# Altium integrated library Microchip PIC18.IntLib: 1897 symbols (part 41 of 110)
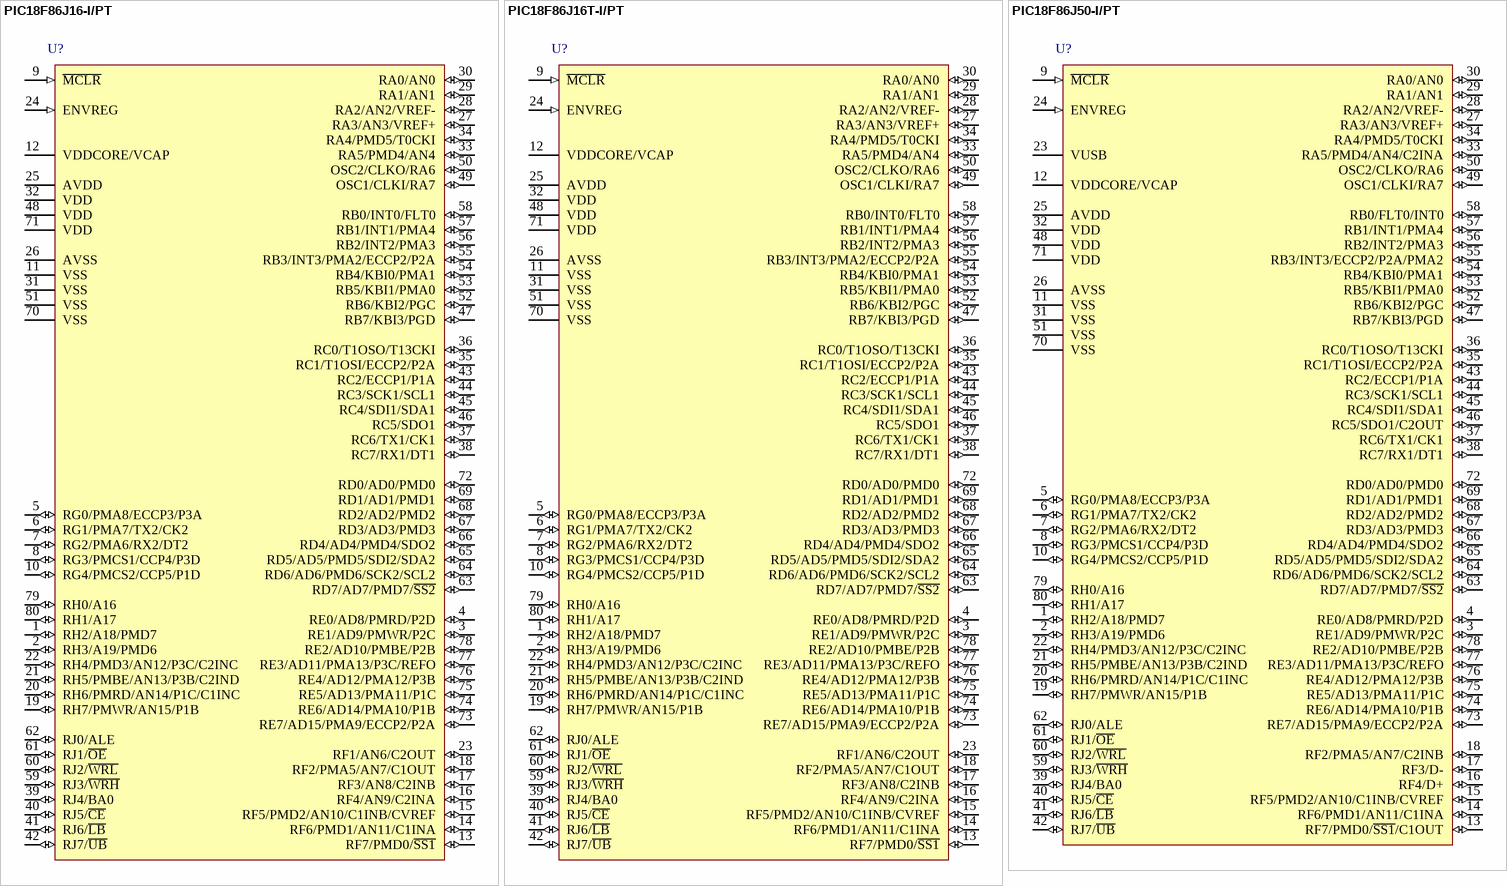
[diagram p243: symbols PIC18F86J16-I/PT to PIC18F86J50-I/PT]

## PIC18F86J50-I/PT
designator U?
High Performance, 1-Mbit Flash USB Microcontroller with nanoWatt Technology, 64K Flash, 80-Pin TQFP, Industrial Temperature Range; Manufacturer: Microchip; PartNumber: PIC18F86J50-I/PT; DatasheetVersion: revC, Oct-2009; PackageVersion: C04-092B, 12/2012; PackageReference: TQFP-PT80; PackageDescription: 80-Lead Plastic Thin Quad FlatPack, 12 x 12 mm Body, 0.5 mm Pitch; ComponentLink1Description: Manufacturer URL; ComponentLink1URL: http://www.microchip.com/; ComponentLink2Description: Datasheet; ComponentLink2URL: http://ww1.microchip.com/downloads/en/DeviceDoc/39775c.pdf; ComponentLink3Description: Package Specification; ComponentLink3URL: http://www.microchip.com/stellent/groups/techpub_sg/documents/packagingspec/en012702.pdf
footprint MCHP-TQFP-PT80_N (QFN, 80-Leads, Body 12x12mm, Pitch 0.5mm, IPC Medium Density)
footprint MCHP-TQFP-PT80_L (QFN, 80-Leads, Body 12x12mm, Pitch 0.5mm, IPC High Density)
footprint MCHP-TQFP-PT80_M (QFN, 80-Leads, Body 12x12mm, Pitch 0.5mm, IPC Low Density)
pins: 1 RH2/A18/PMD7 (io), 2 RH3/A19/PMD6 (io), 3 RE1/AD9/PMWR/P2C (io), 4 RE0/AD8/PMRD/P2D (io), 5 RG0/PMA8/ECCP3/P3A (io), 6 RG1/PMA7/TX2/CK2 (io), 7 RG2/PMA6/RX2/DT2 (io), 8 RG3/PMCS1/CCP4/P3D (io), 9 ~{MCLR} (in), 10 RG4/PMCS2/CCP5/P1D (io), 11 VSS (power), 12 VDDCORE/VCAP (power), 13 RF7/PMD0/~{SS1}/C1OUT (io), 14 RF6/PMD1/AN11/C1INA (io), 15 RF5/PMD2/AN10/C1INB/CVREF (io), 16 RF4/D+ (io), 17 RF3/D- (io), 18 RF2/PMA5/AN7/C2INB (io), 19 RH7/PMWR/AN15/P1B (io), 20 RH6/PMRD/AN14/P1C/C1INC (io), 21 RH5/PMBE/AN13/P3B/C2IND (io), 22 RH4/PMD3/AN12/P3C/C2INC (io), 23 VUSB (power), 24 ENVREG (in), 25 AVDD (power), 26 AVSS (power), 27 RA3/AN3/VREF+ (io), 28 RA2/AN2/VREF- (io), 29 RA1/AN1 (io), 30 RA0/AN0 (io), 31 VSS (power), 32 VDD (power), 33 RA5/PMD4/AN4/C2INA (io), 34 RA4/PMD5/T0CKI (io), 35 RC1/T1OSI/ECCP2/P2A (io), 36 RC0/T1OSO/T13CKI (io), 37 RC6/TX1/CK1 (io), 38 RC7/RX1/DT1 (io), 39 RJ4/BA0 (io), 40 RJ5/~{CE} (io), 41 RJ6/~{LB} (io), 42 RJ7/~{UB} (io), 43 RC2/ECCP1/P1A (io), 44 RC3/SCK1/SCL1 (io), 45 RC4/SDI1/SDA1 (io), 46 RC5/SDO1/C2OUT (io), 47 RB7/KBI3/PGD (io), 48 VDD (power), 49 OSC1/CLKI/RA7 (io), 50 OSC2/CLKO/RA6 (io), 51 VSS (power), 52 RB6/KBI2/PGC (io), 53 RB5/KBI1/PMA0 (io), 54 RB4/KBI0/PMA1 (io), 55 RB3/INT3/ECCP2/P2A/PMA2 (io), 56 RB2/INT2/PMA3 (io), 57 RB1/INT1/PMA4 (io), 58 RB0/FLT0/INT0 (io), 59 RJ3/~{WRH} (io), 60 RJ2/~{WRL} (io), 61 RJ1/~{OE} (io), 62 RJ0/ALE (io), 63 RD7/AD7/PMD7/~{SS2} (io), 64 RD6/AD6/PMD6/SCK2/SCL2 (io), 65 RD5/AD5/PMD5/SDI2/SDA2 (io), 66 RD4/AD4/PMD4/SDO2 (io), 67 RD3/AD3/PMD3 (io), 68 RD2/AD2/PMD2 (io), 69 RD1/AD1/PMD1 (io), 70 VSS (power), 71 VDD (power), 72 RD0/AD0/PMD0 (io), 73 RE7/AD15/PMA9/ECCP2/P2A (io), 74 RE6/AD14/PMA10/P1B (io), 75 RE5/AD13/PMA11/P1C (io), 76 RE4/AD12/PMA12/P3B (io), 77 RE3/AD11/PMA13/P3C/REFO (io), 78 RE2/AD10/PMBE/P2B (io), 79 RH0/A16 (io), 80 RH1/A17 (io)

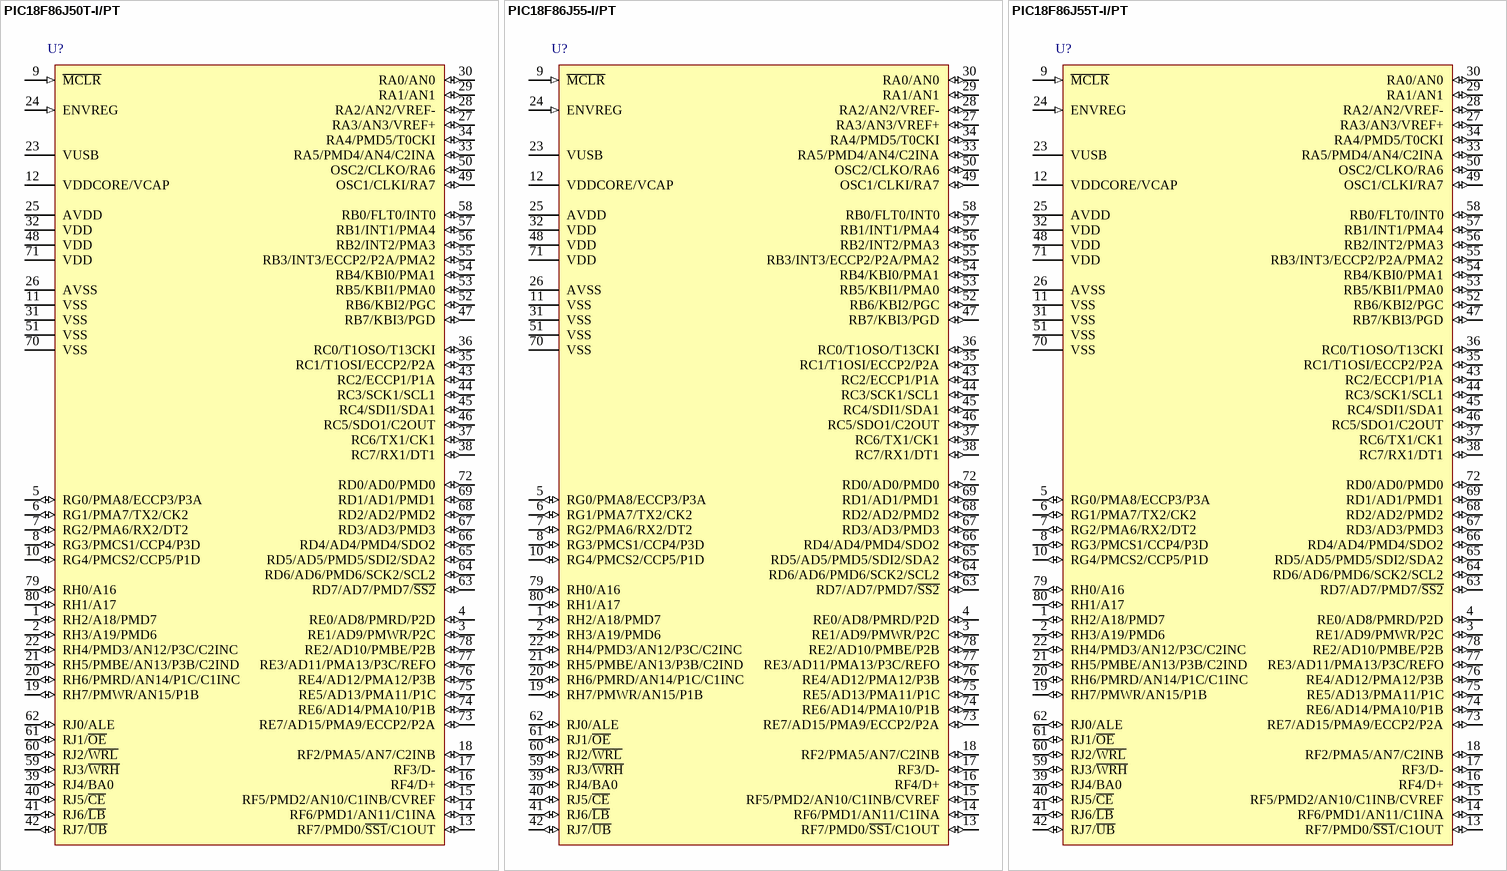
[diagram p72: symbols PIC18F86J50T-I/PT to PIC18F86J55T-I/PT]

## PIC18F86J50T-I/PT
designator U?
High Performance, 1-Mbit Flash USB Microcontroller with nanoWatt Technology, 64K Flash, 80-Pin TQFP, Industrial Temperature Range, Tape and Reel; Manufacturer: Microchip; PartNumber: PIC18F86J50T-I/PT; DatasheetVersion: revC, Oct-2009; PackageVersion: C04-092B, 12/2012; PackageReference: TQFP-PT80; PackageDescription: 80-Lead Plastic Thin Quad FlatPack, 12 x 12 mm Body, 0.5 mm Pitch; ComponentLink1Description: Manufacturer URL; ComponentLink1URL: http://www.microchip.com/; ComponentLink2Description: Datasheet; ComponentLink2URL: http://ww1.microchip.com/downloads/en/DeviceDoc/39775c.pdf; ComponentLink3Description: Package Specification; ComponentLink3URL: http://www.microchip.com/stellent/groups/techpub_sg/documents/packagingspec/en012702.pdf
footprint MCHP-TQFP-PT80_N (QFN, 80-Leads, Body 12x12mm, Pitch 0.5mm, IPC Medium Density)
footprint MCHP-TQFP-PT80_L (QFN, 80-Leads, Body 12x12mm, Pitch 0.5mm, IPC High Density)
footprint MCHP-TQFP-PT80_M (QFN, 80-Leads, Body 12x12mm, Pitch 0.5mm, IPC Low Density)
pins: 1 RH2/A18/PMD7 (io), 2 RH3/A19/PMD6 (io), 3 RE1/AD9/PMWR/P2C (io), 4 RE0/AD8/PMRD/P2D (io), 5 RG0/PMA8/ECCP3/P3A (io), 6 RG1/PMA7/TX2/CK2 (io), 7 RG2/PMA6/RX2/DT2 (io), 8 RG3/PMCS1/CCP4/P3D (io), 9 ~{MCLR} (in), 10 RG4/PMCS2/CCP5/P1D (io), 11 VSS (power), 12 VDDCORE/VCAP (power), 13 RF7/PMD0/~{SS1}/C1OUT (io), 14 RF6/PMD1/AN11/C1INA (io), 15 RF5/PMD2/AN10/C1INB/CVREF (io), 16 RF4/D+ (io), 17 RF3/D- (io), 18 RF2/PMA5/AN7/C2INB (io), 19 RH7/PMWR/AN15/P1B (io), 20 RH6/PMRD/AN14/P1C/C1INC (io), 21 RH5/PMBE/AN13/P3B/C2IND (io), 22 RH4/PMD3/AN12/P3C/C2INC (io), 23 VUSB (power), 24 ENVREG (in), 25 AVDD (power), 26 AVSS (power), 27 RA3/AN3/VREF+ (io), 28 RA2/AN2/VREF- (io), 29 RA1/AN1 (io), 30 RA0/AN0 (io), 31 VSS (power), 32 VDD (power), 33 RA5/PMD4/AN4/C2INA (io), 34 RA4/PMD5/T0CKI (io), 35 RC1/T1OSI/ECCP2/P2A (io), 36 RC0/T1OSO/T13CKI (io), 37 RC6/TX1/CK1 (io), 38 RC7/RX1/DT1 (io), 39 RJ4/BA0 (io), 40 RJ5/~{CE} (io), 41 RJ6/~{LB} (io), 42 RJ7/~{UB} (io), 43 RC2/ECCP1/P1A (io), 44 RC3/SCK1/SCL1 (io), 45 RC4/SDI1/SDA1 (io), 46 RC5/SDO1/C2OUT (io), 47 RB7/KBI3/PGD (io), 48 VDD (power), 49 OSC1/CLKI/RA7 (io), 50 OSC2/CLKO/RA6 (io), 51 VSS (power), 52 RB6/KBI2/PGC (io), 53 RB5/KBI1/PMA0 (io), 54 RB4/KBI0/PMA1 (io), 55 RB3/INT3/ECCP2/P2A/PMA2 (io), 56 RB2/INT2/PMA3 (io), 57 RB1/INT1/PMA4 (io), 58 RB0/FLT0/INT0 (io), 59 RJ3/~{WRH} (io), 60 RJ2/~{WRL} (io), 61 RJ1/~{OE} (io), 62 RJ0/ALE (io), 63 RD7/AD7/PMD7/~{SS2} (io), 64 RD6/AD6/PMD6/SCK2/SCL2 (io), 65 RD5/AD5/PMD5/SDI2/SDA2 (io), 66 RD4/AD4/PMD4/SDO2 (io), 67 RD3/AD3/PMD3 (io), 68 RD2/AD2/PMD2 (io), 69 RD1/AD1/PMD1 (io), 70 VSS (power), 71 VDD (power), 72 RD0/AD0/PMD0 (io), 73 RE7/AD15/PMA9/ECCP2/P2A (io), 74 RE6/AD14/PMA10/P1B (io), 75 RE5/AD13/PMA11/P1C (io), 76 RE4/AD12/PMA12/P3B (io), 77 RE3/AD11/PMA13/P3C/REFO (io), 78 RE2/AD10/PMBE/P2B (io), 79 RH0/A16 (io), 80 RH1/A17 (io)

## PIC18F86J55-I/PT
designator U?
High Performance, 1-Mbit Flash USB Microcontroller with nanoWatt Technology, 96K Flash, 80-Pin TQFP, Industrial Temperature Range; Manufacturer: Microchip; PartNumber: PIC18F86J55-I/PT; DatasheetVersion: revC, Oct-2009; PackageVersion: C04-092B, 12/2012; PackageReference: TQFP-PT80; PackageDescription: 80-Lead Plastic Thin Quad FlatPack, 12 x 12 mm Body, 0.5 mm Pitch; ComponentLink1Description: Manufacturer URL; ComponentLink1URL: http://www.microchip.com/; ComponentLink2Description: Datasheet; ComponentLink2URL: http://ww1.microchip.com/downloads/en/DeviceDoc/39775c.pdf; ComponentLink3Description: Package Specification; ComponentLink3URL: http://www.microchip.com/stellent/groups/techpub_sg/documents/packagingspec/en012702.pdf
footprint MCHP-TQFP-PT80_N (QFN, 80-Leads, Body 12x12mm, Pitch 0.5mm, IPC Medium Density)
footprint MCHP-TQFP-PT80_L (QFN, 80-Leads, Body 12x12mm, Pitch 0.5mm, IPC High Density)
footprint MCHP-TQFP-PT80_M (QFN, 80-Leads, Body 12x12mm, Pitch 0.5mm, IPC Low Density)
pins: 1 RH2/A18/PMD7 (io), 2 RH3/A19/PMD6 (io), 3 RE1/AD9/PMWR/P2C (io), 4 RE0/AD8/PMRD/P2D (io), 5 RG0/PMA8/ECCP3/P3A (io), 6 RG1/PMA7/TX2/CK2 (io), 7 RG2/PMA6/RX2/DT2 (io), 8 RG3/PMCS1/CCP4/P3D (io), 9 ~{MCLR} (in), 10 RG4/PMCS2/CCP5/P1D (io), 11 VSS (power), 12 VDDCORE/VCAP (power), 13 RF7/PMD0/~{SS1}/C1OUT (io), 14 RF6/PMD1/AN11/C1INA (io), 15 RF5/PMD2/AN10/C1INB/CVREF (io), 16 RF4/D+ (io), 17 RF3/D- (io), 18 RF2/PMA5/AN7/C2INB (io), 19 RH7/PMWR/AN15/P1B (io), 20 RH6/PMRD/AN14/P1C/C1INC (io), 21 RH5/PMBE/AN13/P3B/C2IND (io), 22 RH4/PMD3/AN12/P3C/C2INC (io), 23 VUSB (power), 24 ENVREG (in), 25 AVDD (power), 26 AVSS (power), 27 RA3/AN3/VREF+ (io), 28 RA2/AN2/VREF- (io), 29 RA1/AN1 (io), 30 RA0/AN0 (io), 31 VSS (power), 32 VDD (power), 33 RA5/PMD4/AN4/C2INA (io), 34 RA4/PMD5/T0CKI (io), 35 RC1/T1OSI/ECCP2/P2A (io), 36 RC0/T1OSO/T13CKI (io), 37 RC6/TX1/CK1 (io), 38 RC7/RX1/DT1 (io), 39 RJ4/BA0 (io), 40 RJ5/~{CE} (io), 41 RJ6/~{LB} (io), 42 RJ7/~{UB} (io), 43 RC2/ECCP1/P1A (io), 44 RC3/SCK1/SCL1 (io), 45 RC4/SDI1/SDA1 (io), 46 RC5/SDO1/C2OUT (io), 47 RB7/KBI3/PGD (io), 48 VDD (power), 49 OSC1/CLKI/RA7 (io), 50 OSC2/CLKO/RA6 (io), 51 VSS (power), 52 RB6/KBI2/PGC (io), 53 RB5/KBI1/PMA0 (io), 54 RB4/KBI0/PMA1 (io), 55 RB3/INT3/ECCP2/P2A/PMA2 (io), 56 RB2/INT2/PMA3 (io), 57 RB1/INT1/PMA4 (io), 58 RB0/FLT0/INT0 (io), 59 RJ3/~{WRH} (io), 60 RJ2/~{WRL} (io), 61 RJ1/~{OE} (io), 62 RJ0/ALE (io), 63 RD7/AD7/PMD7/~{SS2} (io), 64 RD6/AD6/PMD6/SCK2/SCL2 (io), 65 RD5/AD5/PMD5/SDI2/SDA2 (io), 66 RD4/AD4/PMD4/SDO2 (io), 67 RD3/AD3/PMD3 (io), 68 RD2/AD2/PMD2 (io), 69 RD1/AD1/PMD1 (io), 70 VSS (power), 71 VDD (power), 72 RD0/AD0/PMD0 (io), 73 RE7/AD15/PMA9/ECCP2/P2A (io), 74 RE6/AD14/PMA10/P1B (io), 75 RE5/AD13/PMA11/P1C (io), 76 RE4/AD12/PMA12/P3B (io), 77 RE3/AD11/PMA13/P3C/REFO (io), 78 RE2/AD10/PMBE/P2B (io), 79 RH0/A16 (io), 80 RH1/A17 (io)

## PIC18F86J55T-I/PT
designator U?
High Performance, 1-Mbit Flash USB Microcontroller with nanoWatt Technology, 96K Flash, 80-Pin TQFP, Industrial Temperature Range, Tape and Reel; Manufacturer: Microchip; PartNumber: PIC18F86J55T-I/PT; DatasheetVersion: revC, Oct-2009; PackageVersion: C04-092B, 12/2012; PackageReference: TQFP-PT80; PackageDescription: 80-Lead Plastic Thin Quad FlatPack, 12 x 12 mm Body, 0.5 mm Pitch; ComponentLink1Description: Manufacturer URL; ComponentLink1URL: http://www.microchip.com/; ComponentLink2Description: Datasheet; ComponentLink2URL: http://ww1.microchip.com/downloads/en/DeviceDoc/39775c.pdf; ComponentLink3Description: Package Specification; ComponentLink3URL: http://www.microchip.com/stellent/groups/techpub_sg/documents/packagingspec/en012702.pdf
footprint MCHP-TQFP-PT80_N (QFN, 80-Leads, Body 12x12mm, Pitch 0.5mm, IPC Medium Density)
footprint MCHP-TQFP-PT80_L (QFN, 80-Leads, Body 12x12mm, Pitch 0.5mm, IPC High Density)
footprint MCHP-TQFP-PT80_M (QFN, 80-Leads, Body 12x12mm, Pitch 0.5mm, IPC Low Density)
pins: 1 RH2/A18/PMD7 (io), 2 RH3/A19/PMD6 (io), 3 RE1/AD9/PMWR/P2C (io), 4 RE0/AD8/PMRD/P2D (io), 5 RG0/PMA8/ECCP3/P3A (io), 6 RG1/PMA7/TX2/CK2 (io), 7 RG2/PMA6/RX2/DT2 (io), 8 RG3/PMCS1/CCP4/P3D (io), 9 ~{MCLR} (in), 10 RG4/PMCS2/CCP5/P1D (io), 11 VSS (power), 12 VDDCORE/VCAP (power), 13 RF7/PMD0/~{SS1}/C1OUT (io), 14 RF6/PMD1/AN11/C1INA (io), 15 RF5/PMD2/AN10/C1INB/CVREF (io), 16 RF4/D+ (io), 17 RF3/D- (io), 18 RF2/PMA5/AN7/C2INB (io), 19 RH7/PMWR/AN15/P1B (io), 20 RH6/PMRD/AN14/P1C/C1INC (io), 21 RH5/PMBE/AN13/P3B/C2IND (io), 22 RH4/PMD3/AN12/P3C/C2INC (io), 23 VUSB (power), 24 ENVREG (in), 25 AVDD (power), 26 AVSS (power), 27 RA3/AN3/VREF+ (io), 28 RA2/AN2/VREF- (io), 29 RA1/AN1 (io), 30 RA0/AN0 (io), 31 VSS (power), 32 VDD (power), 33 RA5/PMD4/AN4/C2INA (io), 34 RA4/PMD5/T0CKI (io), 35 RC1/T1OSI/ECCP2/P2A (io), 36 RC0/T1OSO/T13CKI (io), 37 RC6/TX1/CK1 (io), 38 RC7/RX1/DT1 (io), 39 RJ4/BA0 (io), 40 RJ5/~{CE} (io), 41 RJ6/~{LB} (io), 42 RJ7/~{UB} (io), 43 RC2/ECCP1/P1A (io), 44 RC3/SCK1/SCL1 (io), 45 RC4/SDI1/SDA1 (io), 46 RC5/SDO1/C2OUT (io), 47 RB7/KBI3/PGD (io), 48 VDD (power), 49 OSC1/CLKI/RA7 (io), 50 OSC2/CLKO/RA6 (io), 51 VSS (power), 52 RB6/KBI2/PGC (io), 53 RB5/KBI1/PMA0 (io), 54 RB4/KBI0/PMA1 (io), 55 RB3/INT3/ECCP2/P2A/PMA2 (io), 56 RB2/INT2/PMA3 (io), 57 RB1/INT1/PMA4 (io), 58 RB0/FLT0/INT0 (io), 59 RJ3/~{WRH} (io), 60 RJ2/~{WRL} (io), 61 RJ1/~{OE} (io), 62 RJ0/ALE (io), 63 RD7/AD7/PMD7/~{SS2} (io), 64 RD6/AD6/PMD6/SCK2/SCL2 (io), 65 RD5/AD5/PMD5/SDI2/SDA2 (io), 66 RD4/AD4/PMD4/SDO2 (io), 67 RD3/AD3/PMD3 (io), 68 RD2/AD2/PMD2 (io), 69 RD1/AD1/PMD1 (io), 70 VSS (power), 71 VDD (power), 72 RD0/AD0/PMD0 (io), 73 RE7/AD15/PMA9/ECCP2/P2A (io), 74 RE6/AD14/PMA10/P1B (io), 75 RE5/AD13/PMA11/P1C (io), 76 RE4/AD12/PMA12/P3B (io), 77 RE3/AD11/PMA13/P3C/REFO (io), 78 RE2/AD10/PMBE/P2B (io), 79 RH0/A16 (io), 80 RH1/A17 (io)

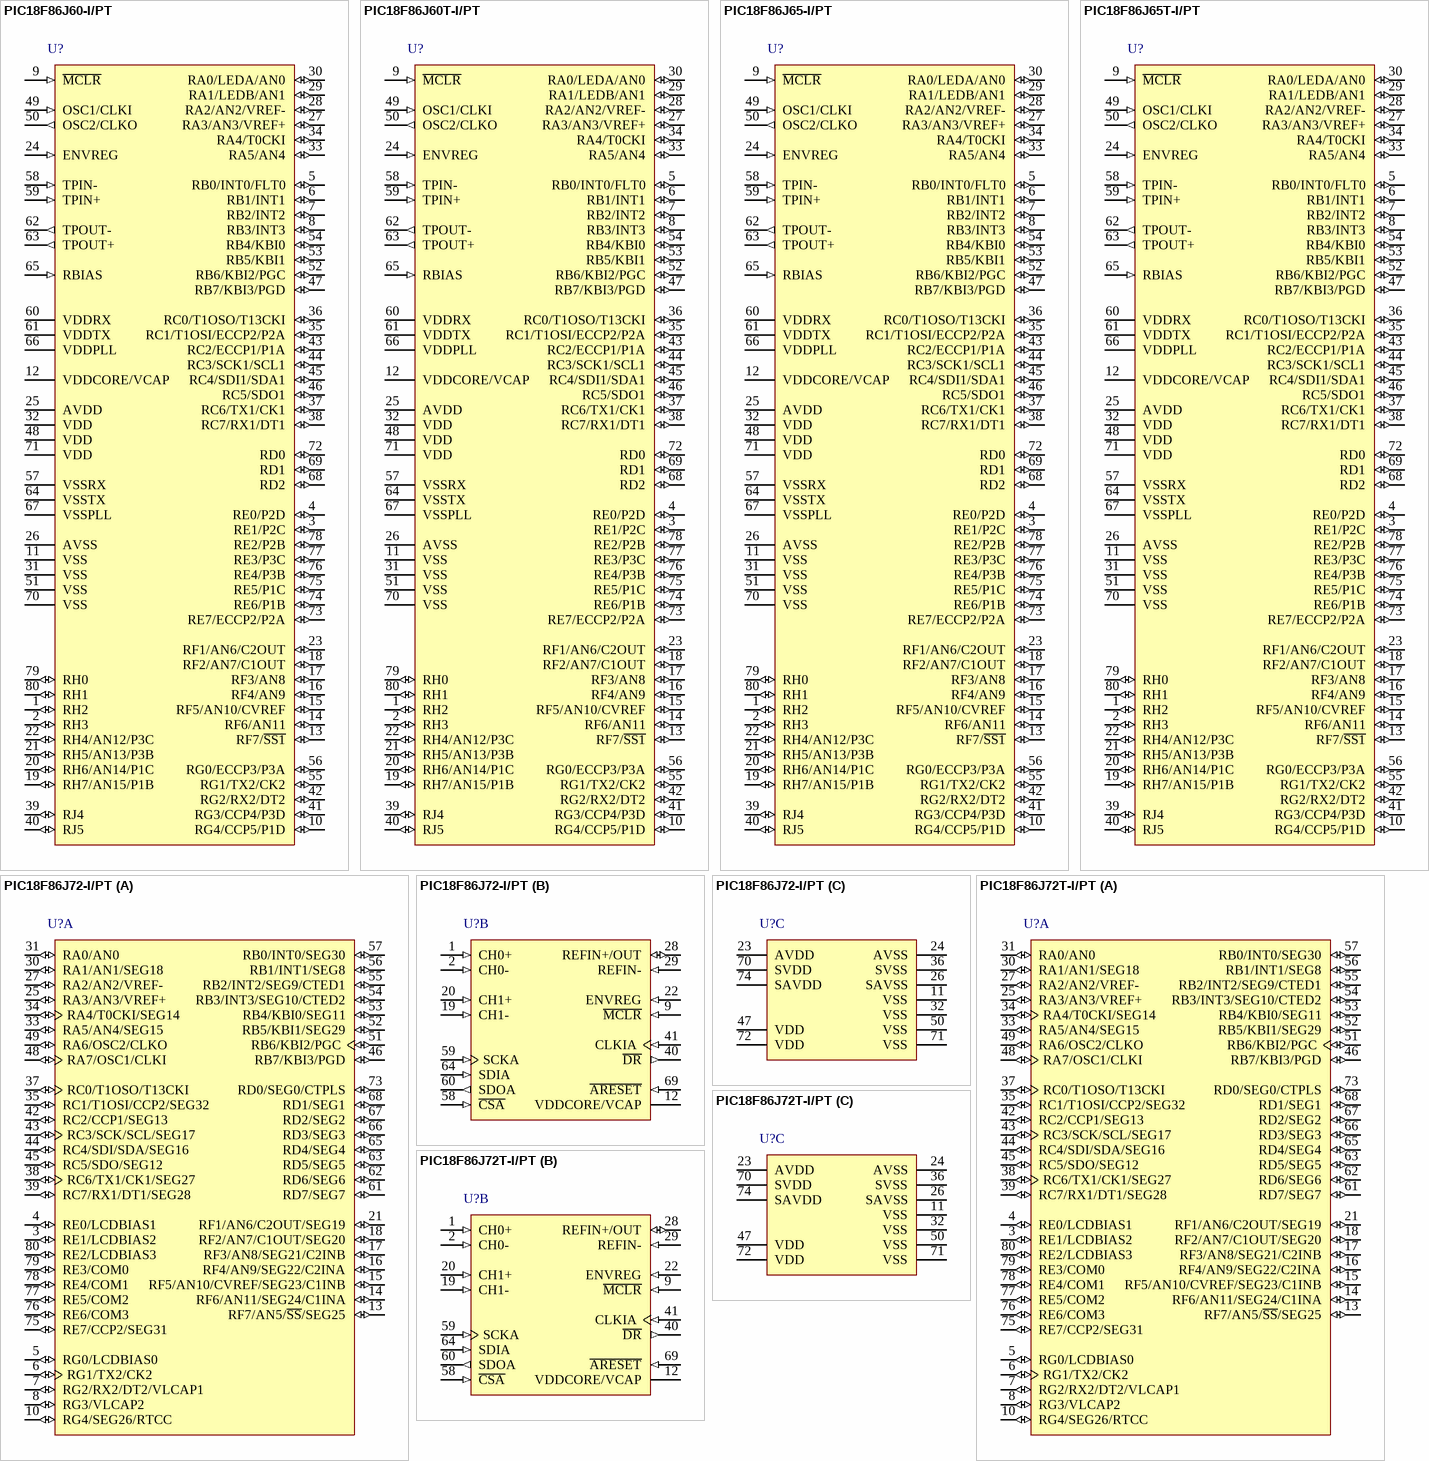
[diagram p73: symbols PIC18F86J60-I/PT to PIC18F86J72T-I/PT]

## PIC18F86J60-I/PT
designator U?
High Performance, 1-Mbit Flash Microcontroller with Ethernet, 64K Flash, 80-Pin TQFP, Industrial Temperature Range; Manufacturer: Microchip; PartNumber: PIC18F86J60-I/PT; DatasheetVersion: revE, Oct-2009; PackageVersion: C04-092B, 12/2012; PackageReference: TQFP-PT80; PackageDescription: 80-Lead Plastic Thin Quad FlatPack, 12 x 12 mm Body, 0.5 mm Pitch; ComponentLink1Description: Manufacturer URL; ComponentLink1URL: http://www.microchip.com/; ComponentLink2Description: Datasheet; ComponentLink2URL: http://ww1.microchip.com/downloads/en/DeviceDoc/39762e.pdf; ComponentLink3Description: Package Specification; ComponentLink3URL: http://www.microchip.com/stellent/groups/techpub_sg/documents/packagingspec/en012702.pdf
footprint MCHP-TQFP-PT80_N (QFN, 80-Leads, Body 12x12mm, Pitch 0.5mm, IPC Medium Density)
footprint MCHP-TQFP-PT80_L (QFN, 80-Leads, Body 12x12mm, Pitch 0.5mm, IPC High Density)
footprint MCHP-TQFP-PT80_M (QFN, 80-Leads, Body 12x12mm, Pitch 0.5mm, IPC Low Density)
pins: 1 RH2 (io), 2 RH3 (io), 3 RE1/P2C (io), 4 RE0/P2D (io), 5 RB0/INT0/FLT0 (io), 6 RB1/INT1 (io), 7 RB2/INT2 (io), 8 RB3/INT3 (io), 9 ~{MCLR} (in), 10 RG4/CCP5/P1D (io), 11 VSS (power), 12 VDDCORE/VCAP (power), 13 RF7/~{SS1} (io), 14 RF6/AN11 (io), 15 RF5/AN10/CVREF (io), 16 RF4/AN9 (io), 17 RF3/AN8 (io), 18 RF2/AN7/C1OUT (io), 19 RH7/AN15/P1B (io), 20 RH6/AN14/P1C (io), 21 RH5/AN13/P3B (io), 22 RH4/AN12/P3C (io), 23 RF1/AN6/C2OUT (io), 24 ENVREG (in), 25 AVDD (power), 26 AVSS (power), 27 RA3/AN3/VREF+ (io), 28 RA2/AN2/VREF- (io), 29 RA1/LEDB/AN1 (io), 30 RA0/LEDA/AN0 (io), 31 VSS (power), 32 VDD (power), 33 RA5/AN4 (io), 34 RA4/T0CKI (io), 35 RC1/T1OSI/ECCP2/P2A (io), 36 RC0/T1OSO/T13CKI (io), 37 RC6/TX1/CK1 (io), 38 RC7/RX1/DT1 (io), 39 RJ4 (io), 40 RJ5 (io), 41 RG3/CCP4/P3D (io), 42 RG2/RX2/DT2 (io), 43 RC2/ECCP1/P1A (io), 44 RC3/SCK1/SCL1 (io), 45 RC4/SDI1/SDA1 (io), 46 RC5/SDO1 (io), 47 RB7/KBI3/PGD (io), 48 VDD (power), 49 OSC1/CLKI (in), 50 OSC2/CLKO (out), 51 VSS (power), 52 RB6/KBI2/PGC (io), 53 RB5/KBI1 (io), 54 RB4/KBI0 (io), 55 RG1/TX2/CK2 (io), 56 RG0/ECCP3/P3A (io), 57 VSSRX (power), 58 TPIN- (in), 59 TPIN+ (in), 60 VDDRX (power), 61 VDDTX (power), 62 TPOUT- (out), 63 TPOUT+ (out), 64 VSSTX (power), 65 RBIAS (in), 66 VDDPLL (power), 67 VSSPLL (power), 68 RD2 (io), 69 RD1 (io), 70 VSS (power), 71 VDD (power), 72 RD0 (io), 73 RE7/ECCP2/P2A (io), 74 RE6/P1B (io), 75 RE5/P1C (io), 76 RE4/P3B (io), 77 RE3/P3C (io), 78 RE2/P2B (io), 79 RH0 (io), 80 RH1 (io)

## PIC18F86J60T-I/PT
designator U?
High Performance, 1-Mbit Flash Microcontroller with Ethernet, 64K Flash, 80-Pin TQFP, Industrial Temperature Range, Tape and Reel; Manufacturer: Microchip; PartNumber: PIC18F86J60T-I/PT; DatasheetVersion: revE, Oct-2009; PackageVersion: C04-092B, 12/2012; PackageReference: TQFP-PT80; PackageDescription: 80-Lead Plastic Thin Quad FlatPack, 12 x 12 mm Body, 0.5 mm Pitch; ComponentLink1Description: Manufacturer URL; ComponentLink1URL: http://www.microchip.com/; ComponentLink2Description: Datasheet; ComponentLink2URL: http://ww1.microchip.com/downloads/en/DeviceDoc/39762e.pdf; ComponentLink3Description: Package Specification; ComponentLink3URL: http://www.microchip.com/stellent/groups/techpub_sg/documents/packagingspec/en012702.pdf
footprint MCHP-TQFP-PT80_N (QFN, 80-Leads, Body 12x12mm, Pitch 0.5mm, IPC Medium Density)
footprint MCHP-TQFP-PT80_L (QFN, 80-Leads, Body 12x12mm, Pitch 0.5mm, IPC High Density)
footprint MCHP-TQFP-PT80_M (QFN, 80-Leads, Body 12x12mm, Pitch 0.5mm, IPC Low Density)
pins: 1 RH2 (io), 2 RH3 (io), 3 RE1/P2C (io), 4 RE0/P2D (io), 5 RB0/INT0/FLT0 (io), 6 RB1/INT1 (io), 7 RB2/INT2 (io), 8 RB3/INT3 (io), 9 ~{MCLR} (in), 10 RG4/CCP5/P1D (io), 11 VSS (power), 12 VDDCORE/VCAP (power), 13 RF7/~{SS1} (io), 14 RF6/AN11 (io), 15 RF5/AN10/CVREF (io), 16 RF4/AN9 (io), 17 RF3/AN8 (io), 18 RF2/AN7/C1OUT (io), 19 RH7/AN15/P1B (io), 20 RH6/AN14/P1C (io), 21 RH5/AN13/P3B (io), 22 RH4/AN12/P3C (io), 23 RF1/AN6/C2OUT (io), 24 ENVREG (in), 25 AVDD (power), 26 AVSS (power), 27 RA3/AN3/VREF+ (io), 28 RA2/AN2/VREF- (io), 29 RA1/LEDB/AN1 (io), 30 RA0/LEDA/AN0 (io), 31 VSS (power), 32 VDD (power), 33 RA5/AN4 (io), 34 RA4/T0CKI (io), 35 RC1/T1OSI/ECCP2/P2A (io), 36 RC0/T1OSO/T13CKI (io), 37 RC6/TX1/CK1 (io), 38 RC7/RX1/DT1 (io), 39 RJ4 (io), 40 RJ5 (io), 41 RG3/CCP4/P3D (io), 42 RG2/RX2/DT2 (io), 43 RC2/ECCP1/P1A (io), 44 RC3/SCK1/SCL1 (io), 45 RC4/SDI1/SDA1 (io), 46 RC5/SDO1 (io), 47 RB7/KBI3/PGD (io), 48 VDD (power), 49 OSC1/CLKI (in), 50 OSC2/CLKO (out), 51 VSS (power), 52 RB6/KBI2/PGC (io), 53 RB5/KBI1 (io), 54 RB4/KBI0 (io), 55 RG1/TX2/CK2 (io), 56 RG0/ECCP3/P3A (io), 57 VSSRX (power), 58 TPIN- (in), 59 TPIN+ (in), 60 VDDRX (power), 61 VDDTX (power), 62 TPOUT- (out), 63 TPOUT+ (out), 64 VSSTX (power), 65 RBIAS (in), 66 VDDPLL (power), 67 VSSPLL (power), 68 RD2 (io), 69 RD1 (io), 70 VSS (power), 71 VDD (power), 72 RD0 (io), 73 RE7/ECCP2/P2A (io), 74 RE6/P1B (io), 75 RE5/P1C (io), 76 RE4/P3B (io), 77 RE3/P3C (io), 78 RE2/P2B (io), 79 RH0 (io), 80 RH1 (io)

## PIC18F86J65-I/PT
designator U?
High Performance, 1-Mbit Flash Microcontroller with Ethernet, 96K Flash, 80-Pin TQFP, Industrial Temperature Range; Manufacturer: Microchip; PartNumber: PIC18F86J65-I/PT; DatasheetVersion: revE, Oct-2009; PackageVersion: C04-092B, 12/2012; PackageReference: TQFP-PT80; PackageDescription: 80-Lead Plastic Thin Quad FlatPack, 12 x 12 mm Body, 0.5 mm Pitch; ComponentLink1Description: Manufacturer URL; ComponentLink1URL: http://www.microchip.com/; ComponentLink2Description: Datasheet; ComponentLink2URL: http://ww1.microchip.com/downloads/en/DeviceDoc/39762e.pdf; ComponentLink3Description: Package Specification; ComponentLink3URL: http://www.microchip.com/stellent/groups/techpub_sg/documents/packagingspec/en012702.pdf
footprint MCHP-TQFP-PT80_N (QFN, 80-Leads, Body 12x12mm, Pitch 0.5mm, IPC Medium Density)
footprint MCHP-TQFP-PT80_L (QFN, 80-Leads, Body 12x12mm, Pitch 0.5mm, IPC High Density)
footprint MCHP-TQFP-PT80_M (QFN, 80-Leads, Body 12x12mm, Pitch 0.5mm, IPC Low Density)
pins: 1 RH2 (io), 2 RH3 (io), 3 RE1/P2C (io), 4 RE0/P2D (io), 5 RB0/INT0/FLT0 (io), 6 RB1/INT1 (io), 7 RB2/INT2 (io), 8 RB3/INT3 (io), 9 ~{MCLR} (in), 10 RG4/CCP5/P1D (io), 11 VSS (power), 12 VDDCORE/VCAP (power), 13 RF7/~{SS1} (io), 14 RF6/AN11 (io), 15 RF5/AN10/CVREF (io), 16 RF4/AN9 (io), 17 RF3/AN8 (io), 18 RF2/AN7/C1OUT (io), 19 RH7/AN15/P1B (io), 20 RH6/AN14/P1C (io), 21 RH5/AN13/P3B (io), 22 RH4/AN12/P3C (io), 23 RF1/AN6/C2OUT (io), 24 ENVREG (in), 25 AVDD (power), 26 AVSS (power), 27 RA3/AN3/VREF+ (io), 28 RA2/AN2/VREF- (io), 29 RA1/LEDB/AN1 (io), 30 RA0/LEDA/AN0 (io), 31 VSS (power), 32 VDD (power), 33 RA5/AN4 (io), 34 RA4/T0CKI (io), 35 RC1/T1OSI/ECCP2/P2A (io), 36 RC0/T1OSO/T13CKI (io), 37 RC6/TX1/CK1 (io), 38 RC7/RX1/DT1 (io), 39 RJ4 (io), 40 RJ5 (io), 41 RG3/CCP4/P3D (io), 42 RG2/RX2/DT2 (io), 43 RC2/ECCP1/P1A (io), 44 RC3/SCK1/SCL1 (io), 45 RC4/SDI1/SDA1 (io), 46 RC5/SDO1 (io), 47 RB7/KBI3/PGD (io), 48 VDD (power), 49 OSC1/CLKI (in), 50 OSC2/CLKO (out), 51 VSS (power), 52 RB6/KBI2/PGC (io), 53 RB5/KBI1 (io), 54 RB4/KBI0 (io), 55 RG1/TX2/CK2 (io), 56 RG0/ECCP3/P3A (io), 57 VSSRX (power), 58 TPIN- (in), 59 TPIN+ (in), 60 VDDRX (power), 61 VDDTX (power), 62 TPOUT- (out), 63 TPOUT+ (out), 64 VSSTX (power), 65 RBIAS (in), 66 VDDPLL (power), 67 VSSPLL (power), 68 RD2 (io), 69 RD1 (io), 70 VSS (power), 71 VDD (power), 72 RD0 (io), 73 RE7/ECCP2/P2A (io), 74 RE6/P1B (io), 75 RE5/P1C (io), 76 RE4/P3B (io), 77 RE3/P3C (io), 78 RE2/P2B (io), 79 RH0 (io), 80 RH1 (io)

## PIC18F86J65T-I/PT
designator U?
High Performance, 1-Mbit Flash Microcontroller with Ethernet, 96K Flash, 80-Pin TQFP, Industrial Temperature Range, Tape and Reel; Manufacturer: Microchip; PartNumber: PIC18F86J65T-I/PT; DatasheetVersion: revE, Oct-2009; PackageVersion: C04-092B, 12/2012; PackageReference: TQFP-PT80; PackageDescription: 80-Lead Plastic Thin Quad FlatPack, 12 x 12 mm Body, 0.5 mm Pitch; ComponentLink1Description: Manufacturer URL; ComponentLink1URL: http://www.microchip.com/; ComponentLink2Description: Datasheet; ComponentLink2URL: http://ww1.microchip.com/downloads/en/DeviceDoc/39762e.pdf; ComponentLink3Description: Package Specification; ComponentLink3URL: http://www.microchip.com/stellent/groups/techpub_sg/documents/packagingspec/en012702.pdf
footprint MCHP-TQFP-PT80_N (QFN, 80-Leads, Body 12x12mm, Pitch 0.5mm, IPC Medium Density)
footprint MCHP-TQFP-PT80_L (QFN, 80-Leads, Body 12x12mm, Pitch 0.5mm, IPC High Density)
footprint MCHP-TQFP-PT80_M (QFN, 80-Leads, Body 12x12mm, Pitch 0.5mm, IPC Low Density)
pins: 1 RH2 (io), 2 RH3 (io), 3 RE1/P2C (io), 4 RE0/P2D (io), 5 RB0/INT0/FLT0 (io), 6 RB1/INT1 (io), 7 RB2/INT2 (io), 8 RB3/INT3 (io), 9 ~{MCLR} (in), 10 RG4/CCP5/P1D (io), 11 VSS (power), 12 VDDCORE/VCAP (power), 13 RF7/~{SS1} (io), 14 RF6/AN11 (io), 15 RF5/AN10/CVREF (io), 16 RF4/AN9 (io), 17 RF3/AN8 (io), 18 RF2/AN7/C1OUT (io), 19 RH7/AN15/P1B (io), 20 RH6/AN14/P1C (io), 21 RH5/AN13/P3B (io), 22 RH4/AN12/P3C (io), 23 RF1/AN6/C2OUT (io), 24 ENVREG (in), 25 AVDD (power), 26 AVSS (power), 27 RA3/AN3/VREF+ (io), 28 RA2/AN2/VREF- (io), 29 RA1/LEDB/AN1 (io), 30 RA0/LEDA/AN0 (io), 31 VSS (power), 32 VDD (power), 33 RA5/AN4 (io), 34 RA4/T0CKI (io), 35 RC1/T1OSI/ECCP2/P2A (io), 36 RC0/T1OSO/T13CKI (io), 37 RC6/TX1/CK1 (io), 38 RC7/RX1/DT1 (io), 39 RJ4 (io), 40 RJ5 (io), 41 RG3/CCP4/P3D (io), 42 RG2/RX2/DT2 (io), 43 RC2/ECCP1/P1A (io), 44 RC3/SCK1/SCL1 (io), 45 RC4/SDI1/SDA1 (io), 46 RC5/SDO1 (io), 47 RB7/KBI3/PGD (io), 48 VDD (power), 49 OSC1/CLKI (in), 50 OSC2/CLKO (out), 51 VSS (power), 52 RB6/KBI2/PGC (io), 53 RB5/KBI1 (io), 54 RB4/KBI0 (io), 55 RG1/TX2/CK2 (io), 56 RG0/ECCP3/P3A (io), 57 VSSRX (power), 58 TPIN- (in), 59 TPIN+ (in), 60 VDDRX (power), 61 VDDTX (power), 62 TPOUT- (out), 63 TPOUT+ (out), 64 VSSTX (power), 65 RBIAS (in), 66 VDDPLL (power), 67 VSSPLL (power), 68 RD2 (io), 69 RD1 (io), 70 VSS (power), 71 VDD (power), 72 RD0 (io), 73 RE7/ECCP2/P2A (io), 74 RE6/P1B (io), 75 RE5/P1C (io), 76 RE4/P3B (io), 77 RE3/P3C (io), 78 RE2/P2B (io), 79 RH0 (io), 80 RH1 (io)

## PIC18F86J72-I/PT
designator U?
High-Performance Microcontroller with Dual Channel AFE, LCD Driver and nanoWatt Technology, 48 MHz, 51 I/O, -40 to 85 degC, 80-pin TQFP (PT80), Tray; Manufacturer: Microchip; PartNumber: PIC18F86J72-I/PT; # of A/D Channels: 2; Digital Communication: 2 -A/E/USART, 1 -MSSP(SPI/I2C); EEPROM Data Memory (bytes): 3923; I/O Pins: 51; Internal Oscillator: 8 MHz, 32 kHz; Max. CPU Speed MHz: 48; Memory Type: Flash; Operation Voltage Range: 2V - 3.6V; Program Memory KBytes: 64; Program Memory KWords: 32; Timers: 3 - 8-bit, 1 - 16-bit; DatasheetVersion: Rev. A; PackageVersion: C04-092B, 12/2012; PackageReference: TQFP-PT80; PackageDescription: 80-Lead Plastic Thin Quad FlatPack, 12 x 12 mm Body, 0.5 mm Pitch; Supplier 1: Digi-Key; Supplier Part Number 1: PIC18F86J72-I/PT-ND; Supplier 2: Farnell; Supplier Part Number 2: 1841565; Supplier 3: Newark; Supplier Part Number 3: 85R2395; Supplier 4: Mouser; Supplier Part Number 4: 579-PIC18F86J72IPT; Packing: TRAY; RAM: 3923; RoHS: TRUE; Mounting Technology: Surface Mount; ComponentLink1Description: Datasheet; ComponentLink1URL: http://ww1.microchip.com/downloads/en/DeviceDoc/39979A.pdf; ComponentLink2Description: Package Specification; ComponentLink2URL: http://www.microchip.com/stellent/groups/techpub_sg/documents/packagingspec/en012702.pdf; ComponentLink3Description: URL Link1; ComponentLink3URL: Product URL:http://www.microchip.com/datasheet/PIC18F86J72
footprint MCHP-TQFP-PT80_N (QFN, 80-Leads, Body 12x12mm, Pitch 0.5mm, IPC Medium Density)
footprint MCHP-TQFP-PT80_L (QFN, 80-Leads, Body 12x12mm, Pitch 0.5mm, IPC High Density)
footprint MCHP-TQFP-PT80_M (QFN, 80-Leads, Body 12x12mm, Pitch 0.5mm, IPC Low Density)
part A pins: 3 RE1/LCDBIAS2 (io), 4 RE0/LCDBIAS1 (io), 5 RG0/LCDBIAS0 (io), 6 RG1/TX2/CK2 (io), 7 RG2/RX2/DT2/VLCAP1 (io), 8 RG3/VLCAP2 (io), 10 RG4/SEG26/RTCC (io), 13 RF7/AN5/~{SS}/SEG25 (io), 14 RF6/AN11/SEG24/C1INA (io), 15 RF5/AN10/CVREF/SEG23/C1INB (io), 16 RF4/AN9/SEG22/C2INA (io), 17 RF3/AN8/SEG21/C2INB (io), 18 RF2/AN7/C1OUT/SEG20 (io), 21 RF1/AN6/C2OUT/SEG19 (io), 25 RA3/AN3/VREF+ (io), 27 RA2/AN2/VREF- (io), 30 RA1/AN1/SEG18 (io), 31 RA0/AN0 (io), 33 RA5/AN4/SEG15 (io), 34 RA4/T0CKI/SEG14 (io), 35 RC1/T1OSI/CCP2/SEG32 (io), 37 RC0/T1OSO/T13CKI (io), 38 RC6/TX1/CK1/SEG27 (io), 39 RC7/RX1/DT1/SEG28 (io), 42 RC2/CCP1/SEG13 (io), 43 RC3/SCK/SCL/SEG17 (io), 44 RC4/SDI/SDA/SEG16 (io), 45 RC5/SDO/SEG12 (io), 46 RB7/KBI3/PGD (io), 48 RA7/OSC1/CLKI (io), 49 RA6/OSC2/CLKO (io), 51 RB6/KBI2/PGC (io), 52 RB5/KBI1/SEG29 (io), 53 RB4/KBI0/SEG11 (io), 54 RB3/INT3/SEG10/CTED2 (io), 55 RB2/INT2/SEG9/CTED1 (io), 56 RB1/INT1/SEG8 (io), 57 RB0/INT0/SEG30 (io), 61 RD7/SEG7 (io), 62 RD6/SEG6 (io), 63 RD5/SEG5 (io), 65 RD4/SEG4 (io), 66 RD3/SEG3 (io), 67 RD2/SEG2 (io), 68 RD1/SEG1 (io), 73 RD0/SEG0/CTPLS (io), 75 RE7/CCP2/SEG31 (io), 76 RE6/COM3 (io), 77 RE5/COM2 (io), 78 RE4/COM1 (io), 79 RE3/COM0 (io), 80 RE2/LCDBIAS3 (io)
part B pins: 1 CH0+ (in) "Channel 0 non-inverting analog input pin.", 2 CH0- (in) "Channel 0 inverting analog input pin.", 9 ~{MCLR} (in) "Master Clear (input) or programming voltage (input). This pin  is an active-low Reset to the device.", 12 VDDCORE/VCAP (power), 19 CH1- (in) "Channel 1 inverting analog input pin.", 20 CH1+ (in) "Channel 1 Non-Inverting Analog Input Pin", 22 ENVREG (in) "Enable for on-chip voltage regulator.", 28 REFIN+/OUT (io), 29 REFIN- (in) "Inverting voltage reference input pin.", 40 ~{DR} (out) "AFE data ready signal output pin.", 41 CLKIA (in) "AFE oscillator crystal connection pin or external clock input pin.", 58 ~{CSA} (in) "AFE serial interface chip select pin.", 59 SCKA (in) "AFE serial interface clock pin.", 60 SDOA (out) "AFE serial interface data output pin.", 64 SDIA (in) "AFE serial interface data input pin.", 69 ~{ARESET} (in)
part C pins: 11 VSS (power) "Ground reference for logic and I/O pins.", 23 AVDD (power) "Positive supply for analog modules.", 24 AVSS (power) "Ground reference for analog modules.", 26 SAVSS (power) "AFE analog ground pin (return path for analog circuitry).", 32 VSS (power) "Ground reference for logic and I/O pins.", 36 SVSS (power) "AFE digital ground pin (return path for digital circuitry).", 47 VDD (power) "Positive supply for logic and I/O pins.", 50 VSS (power) "Ground reference for logic and I/O pins.", 70 SVDD (power) "AFE digital power supply pin.", 71 VSS (power) "Ground reference for logic and I/O pins.", 72 VDD (power) "Positive supply for logic and I/O pins.", 74 SAVDD (power) "AFE analog power supply reference pin."

## PIC18F86J72T-I/PT
designator U?
High-Performance Microcontroller with Dual Channel AFE, LCD Driver and nanoWatt Technology, 48 MHz, 51 I/O, -40 to 85 degC, 80-pin TQFP (PT80), Tape and Reel; Manufacturer: Microchip; PartNumber: PIC18F86J72T-I/PT; # of A/D Channels: 2; Digital Communication: 2 -A/E/USART, 1 -MSSP(SPI/I2C); EEPROM Data Memory (bytes): 3923; I/O Pins: 51; Internal Oscillator: 8 MHz, 32 kHz; Max. CPU Speed MHz: 48; Memory Type: Flash; Operation Voltage Range: 2V - 3.6V; Packing: T/R; Program Memory KBytes: 64; Program Memory KWords: 32; Timers: 3 - 8-bit, 1 - 16-bit; DatasheetVersion: Rev. A; PackageVersion: C04-092B, 12/2012; PackageReference: TQFP-PT80; PackageDescription: 80-Lead Plastic Thin Quad FlatPack, 12 x 12 mm Body, 0.5 mm Pitch; Supplier 1: Digi-Key; Supplier Part Number 1: PIC18F86J72T-I/PT-ND; Supplier 2: Mouser; Supplier Part Number 2: 579-PIC18F86J72TIPT; RAM: 3923; RoHS: TRUE; Mounting Technology: Surface Mount; ComponentLink1Description: Datasheet; ComponentLink1URL: http://ww1.microchip.com/downloads/en/DeviceDoc/39979A.pdf; ComponentLink2Description: Package Specification; ComponentLink2URL: http://www.microchip.com/stellent/groups/techpub_sg/documents/packagingspec/en012702.pdf; ComponentLink3Description: URL Link1; ComponentLink3URL: Product URL:http://www.microchip.com/datasheet/PIC18F86J72
footprint MCHP-TQFP-PT80_N (QFN, 80-Leads, Body 12x12mm, Pitch 0.5mm, IPC Medium Density)
footprint MCHP-TQFP-PT80_L (QFN, 80-Leads, Body 12x12mm, Pitch 0.5mm, IPC High Density)
footprint MCHP-TQFP-PT80_M (QFN, 80-Leads, Body 12x12mm, Pitch 0.5mm, IPC Low Density)
part A pins: 3 RE1/LCDBIAS2 (io), 4 RE0/LCDBIAS1 (io), 5 RG0/LCDBIAS0 (io), 6 RG1/TX2/CK2 (io), 7 RG2/RX2/DT2/VLCAP1 (io), 8 RG3/VLCAP2 (io), 10 RG4/SEG26/RTCC (io), 13 RF7/AN5/~{SS}/SEG25 (io), 14 RF6/AN11/SEG24/C1INA (io), 15 RF5/AN10/CVREF/SEG23/C1INB (io), 16 RF4/AN9/SEG22/C2INA (io), 17 RF3/AN8/SEG21/C2INB (io), 18 RF2/AN7/C1OUT/SEG20 (io), 21 RF1/AN6/C2OUT/SEG19 (io), 25 RA3/AN3/VREF+ (io), 27 RA2/AN2/VREF- (io), 30 RA1/AN1/SEG18 (io), 31 RA0/AN0 (io), 33 RA5/AN4/SEG15 (io), 34 RA4/T0CKI/SEG14 (io), 35 RC1/T1OSI/CCP2/SEG32 (io), 37 RC0/T1OSO/T13CKI (io), 38 RC6/TX1/CK1/SEG27 (io), 39 RC7/RX1/DT1/SEG28 (io), 42 RC2/CCP1/SEG13 (io), 43 RC3/SCK/SCL/SEG17 (io), 44 RC4/SDI/SDA/SEG16 (io), 45 RC5/SDO/SEG12 (io), 46 RB7/KBI3/PGD (io), 48 RA7/OSC1/CLKI (io), 49 RA6/OSC2/CLKO (io), 51 RB6/KBI2/PGC (io), 52 RB5/KBI1/SEG29 (io), 53 RB4/KBI0/SEG11 (io), 54 RB3/INT3/SEG10/CTED2 (io), 55 RB2/INT2/SEG9/CTED1 (io), 56 RB1/INT1/SEG8 (io), 57 RB0/INT0/SEG30 (io), 61 RD7/SEG7 (io), 62 RD6/SEG6 (io), 63 RD5/SEG5 (io), 65 RD4/SEG4 (io), 66 RD3/SEG3 (io), 67 RD2/SEG2 (io), 68 RD1/SEG1 (io), 73 RD0/SEG0/CTPLS (io), 75 RE7/CCP2/SEG31 (io), 76 RE6/COM3 (io), 77 RE5/COM2 (io), 78 RE4/COM1 (io), 79 RE3/COM0 (io), 80 RE2/LCDBIAS3 (io)
part B pins: 1 CH0+ (in) "Channel 0 non-inverting analog input pin.", 2 CH0- (in) "Channel 0 inverting analog input pin.", 9 ~{MCLR} (in) "Master Clear (input) or programming voltage (input). This pin  is an active-low Reset to the device.", 12 VDDCORE/VCAP (power), 19 CH1- (in) "Channel 1 inverting analog input pin.", 20 CH1+ (in) "Channel 1 Non-Inverting Analog Input Pin", 22 ENVREG (in) "Enable for on-chip voltage regulator.", 28 REFIN+/OUT (io), 29 REFIN- (in) "Inverting voltage reference input pin.", 40 ~{DR} (out) "AFE data ready signal output pin.", 41 CLKIA (in) "AFE oscillator crystal connection pin or external clock input pin.", 58 ~{CSA} (in) "AFE serial interface chip select pin.", 59 SCKA (in) "AFE serial interface clock pin.", 60 SDOA (out) "AFE serial interface data output pin.", 64 SDIA (in) "AFE serial interface data input pin.", 69 ~{ARESET} (in)
part C pins: 11 VSS (power) "Ground reference for logic and I/O pins.", 23 AVDD (power) "Positive supply for analog modules.", 24 AVSS (power) "Ground reference for analog modules.", 26 SAVSS (power) "AFE analog ground pin (return path for analog circuitry).", 32 VSS (power) "Ground reference for logic and I/O pins.", 36 SVSS (power) "AFE digital ground pin (return path for digital circuitry).", 47 VDD (power) "Positive supply for logic and I/O pins.", 50 VSS (power) "Ground reference for logic and I/O pins.", 70 SVDD (power) "AFE digital power supply pin.", 71 VSS (power) "Ground reference for logic and I/O pins.", 72 VDD (power) "Positive supply for logic and I/O pins.", 74 SAVDD (power) "AFE analog power supply reference pin."

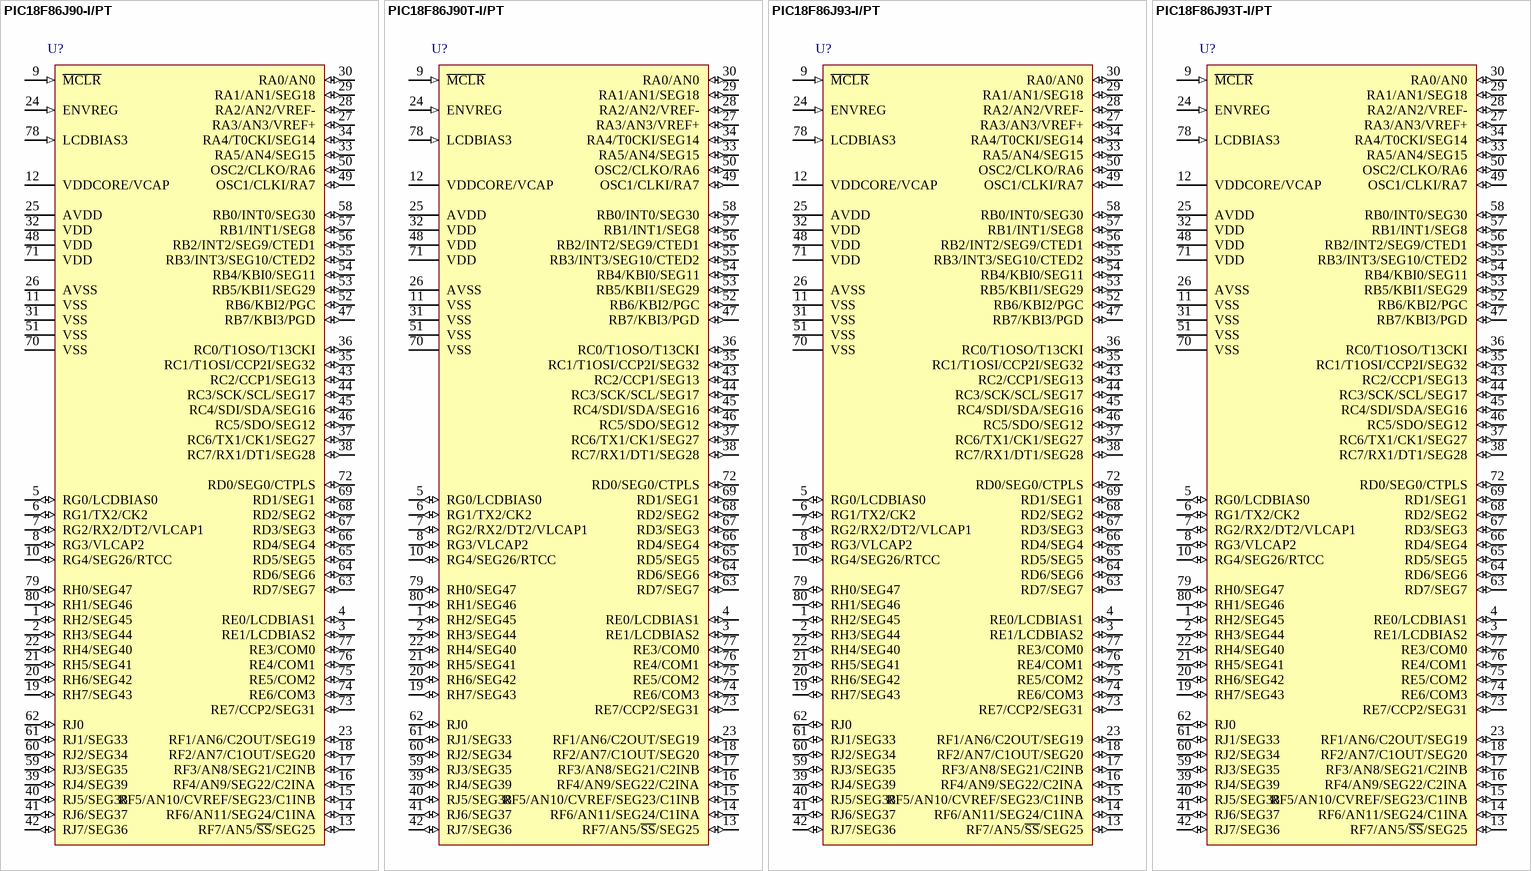
[diagram p74: symbols PIC18F86J90-I/PT to PIC18F86J93T-I/PT]

## PIC18F86J90-I/PT
designator U?
High Performance Microcontroller with LCD Driver and nanoWatt Technology, 80-pin TQFP, Industrial Temperature; Manufacturer: Microchip; PartNumber: PIC18F86J90-I/PT; DatasheetVersion: revC, Feb-2009; PackageVersion: C04-092B, 12/2012; PackageReference: TQFP-PT80; PackageDescription: 80-Lead Plastic Thin Quad FlatPack, 12 x 12 mm Body, 0.5 mm Pitch; ComponentLink1Description: Manufacturer URL; ComponentLink1URL: http://www.microchip.com/; ComponentLink2Description: Datasheet; ComponentLink2URL: http://ww1.microchip.com/downloads/en/DeviceDoc/39933C.pdf; ComponentLink3Description: Package Specification; ComponentLink3URL: http://www.microchip.com/stellent/groups/techpub_sg/documents/packagingspec/en012702.pdf
footprint MCHP-TQFP-PT80_N (QFN, 80-Leads, Body 12x12mm, Pitch 0.5mm, IPC Medium Density)
footprint MCHP-TQFP-PT80_L (QFN, 80-Leads, Body 12x12mm, Pitch 0.5mm, IPC High Density)
footprint MCHP-TQFP-PT80_M (QFN, 80-Leads, Body 12x12mm, Pitch 0.5mm, IPC Low Density)
pins: 1 RH2/SEG45 (io), 2 RH3/SEG44 (io), 3 RE1/LCDBIAS2 (io), 4 RE0/LCDBIAS1 (io), 5 RG0/LCDBIAS0 (io), 6 RG1/TX2/CK2 (io), 7 RG2/RX2/DT2/VLCAP1 (io), 8 RG3/VLCAP2 (io), 9 ~{MCLR} (in), 10 RG4/SEG26/RTCC (io), 11 VSS (power), 12 VDDCORE/VCAP (power), 13 RF7/AN5/~{SS}/SEG25 (io), 14 RF6/AN11/SEG24/C1INA (io), 15 RF5/AN10/CVREF/SEG23/C1INB (io), 16 RF4/AN9/SEG22/C2INA (io), 17 RF3/AN8/SEG21/C2INB (io), 18 RF2/AN7/C1OUT/SEG20 (io), 19 RH7/SEG43 (io), 20 RH6/SEG42 (io), 21 RH5/SEG41 (io), 22 RH4/SEG40 (io), 23 RF1/AN6/C2OUT/SEG19 (io), 24 ENVREG (in), 25 AVDD (power), 26 AVSS (power), 27 RA3/AN3/VREF+ (io), 28 RA2/AN2/VREF- (io), 29 RA1/AN1/SEG18 (io), 30 RA0/AN0 (io), 31 VSS (power), 32 VDD (power), 33 RA5/AN4/SEG15 (io), 34 RA4/T0CKI/SEG14 (io), 35 RC1/T1OSI/CCP2I/SEG32 (io), 36 RC0/T1OSO/T13CKI (io), 37 RC6/TX1/CK1/SEG27 (io), 38 RC7/RX1/DT1/SEG28 (io), 39 RJ4/SEG39 (io), 40 RJ5/SEG38 (io), 41 RJ6/SEG37 (io), 42 RJ7/SEG36 (io), 43 RC2/CCP1/SEG13 (io), 44 RC3/SCK/SCL/SEG17 (io), 45 RC4/SDI/SDA/SEG16 (io), 46 RC5/SDO/SEG12 (io), 47 RB7/KBI3/PGD (io), 48 VDD (power), 49 OSC1/CLKI/RA7 (io), 50 OSC2/CLKO/RA6 (io), 51 VSS (power), 52 RB6/KBI2/PGC (io), 53 RB5/KBI1/SEG29 (io), 54 RB4/KBI0/SEG11 (io), 55 RB3/INT3/SEG10/CTED2 (io), 56 RB2/INT2/SEG9/CTED1 (io), 57 RB1/INT1/SEG8 (io), 58 RB0/INT0/SEG30 (io), 59 RJ3/SEG35 (io), 60 RJ2/SEG34 (io), 61 RJ1/SEG33 (io), 62 RJ0 (io), 63 RD7/SEG7 (io), 64 RD6/SEG6 (io), 65 RD5/SEG5 (io), 66 RD4/SEG4 (io), 67 RD3/SEG3 (io), 68 RD2/SEG2 (io), 69 RD1/SEG1 (io), 70 VSS (power), 71 VDD (power), 72 RD0/SEG0/CTPLS (io), 73 RE7/CCP2/SEG31 (io), 74 RE6/COM3 (io), 75 RE5/COM2 (io), 76 RE4/COM1 (io), 77 RE3/COM0 (io), 78 LCDBIAS3 (in), 79 RH0/SEG47 (io), 80 RH1/SEG46 (io)

## PIC18F86J90T-I/PT
designator U?
High Performance Microcontroller with LCD Driver and nanoWatt Technology, 80-pin TQFP, Industrial Temperature, Tape and Reel; Manufacturer: Microchip; PartNumber: PIC18F86J90T-I/PT; DatasheetVersion: revC, Feb-2009; PackageVersion: C04-092B, 12/2012; PackageReference: TQFP-PT80; PackageDescription: 80-Lead Plastic Thin Quad FlatPack, 12 x 12 mm Body, 0.5 mm Pitch; ComponentLink1Description: Manufacturer URL; ComponentLink1URL: http://www.microchip.com/; ComponentLink2Description: Datasheet; ComponentLink2URL: http://ww1.microchip.com/downloads/en/DeviceDoc/39933C.pdf; ComponentLink3Description: Package Specification; ComponentLink3URL: http://www.microchip.com/stellent/groups/techpub_sg/documents/packagingspec/en012702.pdf
footprint MCHP-TQFP-PT80_N (QFN, 80-Leads, Body 12x12mm, Pitch 0.5mm, IPC Medium Density)
footprint MCHP-TQFP-PT80_L (QFN, 80-Leads, Body 12x12mm, Pitch 0.5mm, IPC High Density)
footprint MCHP-TQFP-PT80_M (QFN, 80-Leads, Body 12x12mm, Pitch 0.5mm, IPC Low Density)
pins: 1 RH2/SEG45 (io), 2 RH3/SEG44 (io), 3 RE1/LCDBIAS2 (io), 4 RE0/LCDBIAS1 (io), 5 RG0/LCDBIAS0 (io), 6 RG1/TX2/CK2 (io), 7 RG2/RX2/DT2/VLCAP1 (io), 8 RG3/VLCAP2 (io), 9 ~{MCLR} (in), 10 RG4/SEG26/RTCC (io), 11 VSS (power), 12 VDDCORE/VCAP (power), 13 RF7/AN5/~{SS}/SEG25 (io), 14 RF6/AN11/SEG24/C1INA (io), 15 RF5/AN10/CVREF/SEG23/C1INB (io), 16 RF4/AN9/SEG22/C2INA (io), 17 RF3/AN8/SEG21/C2INB (io), 18 RF2/AN7/C1OUT/SEG20 (io), 19 RH7/SEG43 (io), 20 RH6/SEG42 (io), 21 RH5/SEG41 (io), 22 RH4/SEG40 (io), 23 RF1/AN6/C2OUT/SEG19 (io), 24 ENVREG (in), 25 AVDD (power), 26 AVSS (power), 27 RA3/AN3/VREF+ (io), 28 RA2/AN2/VREF- (io), 29 RA1/AN1/SEG18 (io), 30 RA0/AN0 (io), 31 VSS (power), 32 VDD (power), 33 RA5/AN4/SEG15 (io), 34 RA4/T0CKI/SEG14 (io), 35 RC1/T1OSI/CCP2I/SEG32 (io), 36 RC0/T1OSO/T13CKI (io), 37 RC6/TX1/CK1/SEG27 (io), 38 RC7/RX1/DT1/SEG28 (io), 39 RJ4/SEG39 (io), 40 RJ5/SEG38 (io), 41 RJ6/SEG37 (io), 42 RJ7/SEG36 (io), 43 RC2/CCP1/SEG13 (io), 44 RC3/SCK/SCL/SEG17 (io), 45 RC4/SDI/SDA/SEG16 (io), 46 RC5/SDO/SEG12 (io), 47 RB7/KBI3/PGD (io), 48 VDD (power), 49 OSC1/CLKI/RA7 (io), 50 OSC2/CLKO/RA6 (io), 51 VSS (power), 52 RB6/KBI2/PGC (io), 53 RB5/KBI1/SEG29 (io), 54 RB4/KBI0/SEG11 (io), 55 RB3/INT3/SEG10/CTED2 (io), 56 RB2/INT2/SEG9/CTED1 (io), 57 RB1/INT1/SEG8 (io), 58 RB0/INT0/SEG30 (io), 59 RJ3/SEG35 (io), 60 RJ2/SEG34 (io), 61 RJ1/SEG33 (io), 62 RJ0 (io), 63 RD7/SEG7 (io), 64 RD6/SEG6 (io), 65 RD5/SEG5 (io), 66 RD4/SEG4 (io), 67 RD3/SEG3 (io), 68 RD2/SEG2 (io), 69 RD1/SEG1 (io), 70 VSS (power), 71 VDD (power), 72 RD0/SEG0/CTPLS (io), 73 RE7/CCP2/SEG31 (io), 74 RE6/COM3 (io), 75 RE5/COM2 (io), 76 RE4/COM1 (io), 77 RE3/COM0 (io), 78 LCDBIAS3 (in), 79 RH0/SEG47 (io), 80 RH1/SEG46 (io)

## PIC18F86J93-I/PT
designator U?
High Performance Microcontroller with LCD Driver, 12-Bit A/D and nanoWatt Technology, 80-pin TQFP, Industrial Temperature; Manufacturer: Microchip; PartNumber: PIC18F86J93-I/PT; DatasheetVersion: revA, Jun-2009; PackageVersion: C04-092B, 12/2012; PackageReference: TQFP-PT80; PackageDescription: 80-Lead Plastic Thin Quad FlatPack, 12 x 12 mm Body, 0.5 mm Pitch; ComponentLink1Description: Manufacturer URL; ComponentLink1URL: http://www.microchip.com/; ComponentLink2Description: Datasheet; ComponentLink2URL: http://ww1.microchip.com/downloads/en/DeviceDoc/39948a.pdf; ComponentLink3Description: Package Specification; ComponentLink3URL: http://www.microchip.com/stellent/groups/techpub_sg/documents/packagingspec/en012702.pdf
footprint MCHP-TQFP-PT80_N (QFN, 80-Leads, Body 12x12mm, Pitch 0.5mm, IPC Medium Density)
footprint MCHP-TQFP-PT80_L (QFN, 80-Leads, Body 12x12mm, Pitch 0.5mm, IPC High Density)
footprint MCHP-TQFP-PT80_M (QFN, 80-Leads, Body 12x12mm, Pitch 0.5mm, IPC Low Density)
pins: 1 RH2/SEG45 (io), 2 RH3/SEG44 (io), 3 RE1/LCDBIAS2 (io), 4 RE0/LCDBIAS1 (io), 5 RG0/LCDBIAS0 (io), 6 RG1/TX2/CK2 (io), 7 RG2/RX2/DT2/VLCAP1 (io), 8 RG3/VLCAP2 (io), 9 ~{MCLR} (in), 10 RG4/SEG26/RTCC (io), 11 VSS (power), 12 VDDCORE/VCAP (power), 13 RF7/AN5/~{SS}/SEG25 (io), 14 RF6/AN11/SEG24/C1INA (io), 15 RF5/AN10/CVREF/SEG23/C1INB (io), 16 RF4/AN9/SEG22/C2INA (io), 17 RF3/AN8/SEG21/C2INB (io), 18 RF2/AN7/C1OUT/SEG20 (io), 19 RH7/SEG43 (io), 20 RH6/SEG42 (io), 21 RH5/SEG41 (io), 22 RH4/SEG40 (io), 23 RF1/AN6/C2OUT/SEG19 (io), 24 ENVREG (in), 25 AVDD (power), 26 AVSS (power), 27 RA3/AN3/VREF+ (io), 28 RA2/AN2/VREF- (io), 29 RA1/AN1/SEG18 (io), 30 RA0/AN0 (io), 31 VSS (power), 32 VDD (power), 33 RA5/AN4/SEG15 (io), 34 RA4/T0CKI/SEG14 (io), 35 RC1/T1OSI/CCP2I/SEG32 (io), 36 RC0/T1OSO/T13CKI (io), 37 RC6/TX1/CK1/SEG27 (io), 38 RC7/RX1/DT1/SEG28 (io), 39 RJ4/SEG39 (io), 40 RJ5/SEG38 (io), 41 RJ6/SEG37 (io), 42 RJ7/SEG36 (io), 43 RC2/CCP1/SEG13 (io), 44 RC3/SCK/SCL/SEG17 (io), 45 RC4/SDI/SDA/SEG16 (io), 46 RC5/SDO/SEG12 (io), 47 RB7/KBI3/PGD (io), 48 VDD (power), 49 OSC1/CLKI/RA7 (io), 50 OSC2/CLKO/RA6 (io), 51 VSS (power), 52 RB6/KBI2/PGC (io), 53 RB5/KBI1/SEG29 (io), 54 RB4/KBI0/SEG11 (io), 55 RB3/INT3/SEG10/CTED2 (io), 56 RB2/INT2/SEG9/CTED1 (io), 57 RB1/INT1/SEG8 (io), 58 RB0/INT0/SEG30 (io), 59 RJ3/SEG35 (io), 60 RJ2/SEG34 (io), 61 RJ1/SEG33 (io), 62 RJ0 (io), 63 RD7/SEG7 (io), 64 RD6/SEG6 (io), 65 RD5/SEG5 (io), 66 RD4/SEG4 (io), 67 RD3/SEG3 (io), 68 RD2/SEG2 (io), 69 RD1/SEG1 (io), 70 VSS (power), 71 VDD (power), 72 RD0/SEG0/CTPLS (io), 73 RE7/CCP2/SEG31 (io), 74 RE6/COM3 (io), 75 RE5/COM2 (io), 76 RE4/COM1 (io), 77 RE3/COM0 (io), 78 LCDBIAS3 (in), 79 RH0/SEG47 (io), 80 RH1/SEG46 (io)

## PIC18F86J93T-I/PT
designator U?
High Performance Microcontroller with LCD Driver, 12-Bit A/D and nanoWatt Technology, 80-pin TQFP, Industrial Temperature, Tape and Reel; Manufacturer: Microchip; PartNumber: PIC18F86J93T-I/PT; DatasheetVersion: revA, Jun-2009; PackageVersion: C04-092B, 12/2012; PackageReference: TQFP-PT80; PackageDescription: 80-Lead Plastic Thin Quad FlatPack, 12 x 12 mm Body, 0.5 mm Pitch; ComponentLink1Description: Manufacturer URL; ComponentLink1URL: http://www.microchip.com/; ComponentLink2Description: Datasheet; ComponentLink2URL: http://ww1.microchip.com/downloads/en/DeviceDoc/39948a.pdf; ComponentLink3Description: Package Specification; ComponentLink3URL: http://www.microchip.com/stellent/groups/techpub_sg/documents/packagingspec/en012702.pdf
footprint MCHP-TQFP-PT80_N (QFN, 80-Leads, Body 12x12mm, Pitch 0.5mm, IPC Medium Density)
footprint MCHP-TQFP-PT80_L (QFN, 80-Leads, Body 12x12mm, Pitch 0.5mm, IPC High Density)
footprint MCHP-TQFP-PT80_M (QFN, 80-Leads, Body 12x12mm, Pitch 0.5mm, IPC Low Density)
pins: 1 RH2/SEG45 (io), 2 RH3/SEG44 (io), 3 RE1/LCDBIAS2 (io), 4 RE0/LCDBIAS1 (io), 5 RG0/LCDBIAS0 (io), 6 RG1/TX2/CK2 (io), 7 RG2/RX2/DT2/VLCAP1 (io), 8 RG3/VLCAP2 (io), 9 ~{MCLR} (in), 10 RG4/SEG26/RTCC (io), 11 VSS (power), 12 VDDCORE/VCAP (power), 13 RF7/AN5/~{SS}/SEG25 (io), 14 RF6/AN11/SEG24/C1INA (io), 15 RF5/AN10/CVREF/SEG23/C1INB (io), 16 RF4/AN9/SEG22/C2INA (io), 17 RF3/AN8/SEG21/C2INB (io), 18 RF2/AN7/C1OUT/SEG20 (io), 19 RH7/SEG43 (io), 20 RH6/SEG42 (io), 21 RH5/SEG41 (io), 22 RH4/SEG40 (io), 23 RF1/AN6/C2OUT/SEG19 (io), 24 ENVREG (in), 25 AVDD (power), 26 AVSS (power), 27 RA3/AN3/VREF+ (io), 28 RA2/AN2/VREF- (io), 29 RA1/AN1/SEG18 (io), 30 RA0/AN0 (io), 31 VSS (power), 32 VDD (power), 33 RA5/AN4/SEG15 (io), 34 RA4/T0CKI/SEG14 (io), 35 RC1/T1OSI/CCP2I/SEG32 (io), 36 RC0/T1OSO/T13CKI (io), 37 RC6/TX1/CK1/SEG27 (io), 38 RC7/RX1/DT1/SEG28 (io), 39 RJ4/SEG39 (io), 40 RJ5/SEG38 (io), 41 RJ6/SEG37 (io), 42 RJ7/SEG36 (io), 43 RC2/CCP1/SEG13 (io), 44 RC3/SCK/SCL/SEG17 (io), 45 RC4/SDI/SDA/SEG16 (io), 46 RC5/SDO/SEG12 (io), 47 RB7/KBI3/PGD (io), 48 VDD (power), 49 OSC1/CLKI/RA7 (io), 50 OSC2/CLKO/RA6 (io), 51 VSS (power), 52 RB6/KBI2/PGC (io), 53 RB5/KBI1/SEG29 (io), 54 RB4/KBI0/SEG11 (io), 55 RB3/INT3/SEG10/CTED2 (io), 56 RB2/INT2/SEG9/CTED1 (io), 57 RB1/INT1/SEG8 (io), 58 RB0/INT0/SEG30 (io), 59 RJ3/SEG35 (io), 60 RJ2/SEG34 (io), 61 RJ1/SEG33 (io), 62 RJ0 (io), 63 RD7/SEG7 (io), 64 RD6/SEG6 (io), 65 RD5/SEG5 (io), 66 RD4/SEG4 (io), 67 RD3/SEG3 (io), 68 RD2/SEG2 (io), 69 RD1/SEG1 (io), 70 VSS (power), 71 VDD (power), 72 RD0/SEG0/CTPLS (io), 73 RE7/CCP2/SEG31 (io), 74 RE6/COM3 (io), 75 RE5/COM2 (io), 76 RE4/COM1 (io), 77 RE3/COM0 (io), 78 LCDBIAS3 (in), 79 RH0/SEG47 (io), 80 RH1/SEG46 (io)

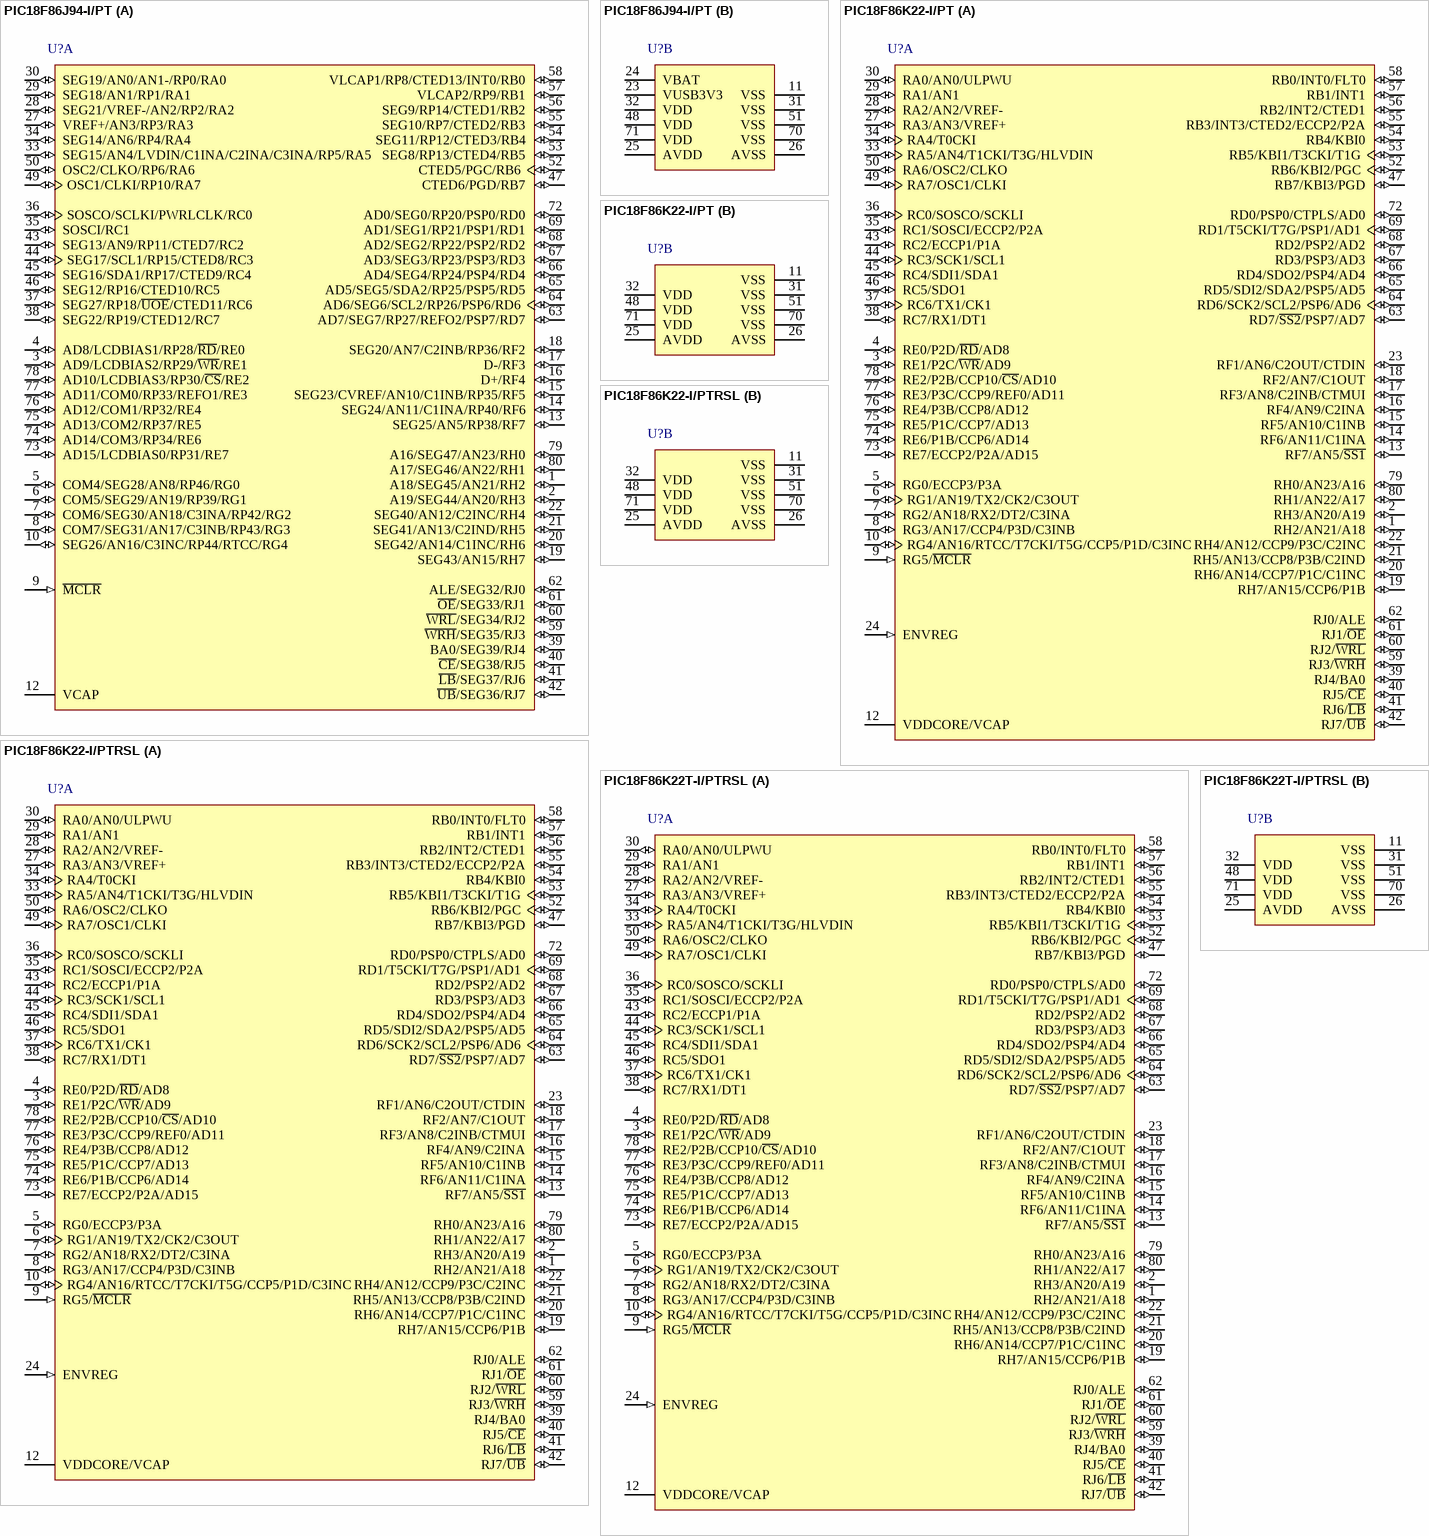
[diagram p75: symbols PIC18F86J94-I/PT to PIC18F86K22T-I/PTRSL]

## PIC18F86J94-I/PT
designator U?
8-Bit LCD Flash Microcontroller with USB and XLP Technology, 64 MHz, 69 I/O, -40 to 85 degC, 80-pin TQFP (PT80), Tray; Manufacturer: Microchip; PartNumber: PIC18F86J94-I/PT; # of A/D Channels: 24; Digital Communication: 4 -A/E/USART, 2 -MSSP(SPI/I2C); I/O Pins: 69; Max. CPU Speed MHz: 64; Operation Voltage Range: 2V - 3.6V; Program Memory KWords: 32; RAM: 3862; Timers: 4 - 16-bit; DatasheetVersion: Rev. A; PackageVersion: C04-092B, 12/2012; PackageReference: TQFP-PT80; PackageDescription: 80-Lead Plastic Thin Quad FlatPack, 12 x 12 mm Body, 0.5 mm Pitch; Supplier 1: Digi-Key; Supplier Part Number 1: PIC18F86J94-I/PT-ND; Supplier 2: Newark; Supplier Part Number 2: 06W3000; Supplier 3: Mouser; Supplier Part Number 3: 579-PIC18F86J94-I/PT; Memory Type: Flash; Packing: TRAY; Program Memory KBytes: 64; RoHS: TRUE; Mounting Technology: Surface Mount; ComponentLink1Description: Datasheet; ComponentLink1URL: http://ww1.microchip.com/downloads/en/DeviceDoc/30575A.pdf; ComponentLink2Description: Package Specification; ComponentLink2URL: http://www.microchip.com/stellent/groups/techpub_sg/documents/packagingspec/en012702.pdf; ComponentLink3Description: URL Link1; ComponentLink3URL: Product URL:http://www.microchip.com/datasheet/PIC18F86J94
footprint MCHP-TQFP-PT80_N (QFN, 80-Leads, Body 12x12mm, Pitch 0.5mm, IPC Medium Density)
footprint MCHP-TQFP-PT80_L (QFN, 80-Leads, Body 12x12mm, Pitch 0.5mm, IPC High Density)
footprint MCHP-TQFP-PT80_M (QFN, 80-Leads, Body 12x12mm, Pitch 0.5mm, IPC Low Density)
part A pins: 1 A18/SEG45/AN21/RH2 (io), 2 A19/SEG44/AN20/RH3 (io), 3 AD9/LCDBIAS2/RP29/~{WR}/RE1 (io), 4 AD8/LCDBIAS1/RP28/~{RD}/RE0 (io), 5 COM4/SEG28/AN8/RP46/RG0 (io), 6 COM5/SEG29/AN19/RP39/RG1 (io), 7 COM6/SEG30/AN18/C3INA/RP42/RG2 (io), 8 COM7/SEG31/AN17/C3INB/RP43/RG3 (io), 9 ~{MCLR} (in) "Master Clear (input) or programming voltage (input). This pin is an active-low Reset to the device.", 10 SEG26/AN16/C3INC/RP44/RTCC/RG4 (io), 12 VCAP "Core logic power or external filter capacitor connection. External filter capacitor connection (regulator enabled/disabled).", 13 SEG25/AN5/RP38/RF7 (io), 14 SEG24/AN11/C1INA/RP40/RF6 (io), 15 SEG23/CVREF/AN10/C1INB/RP35/RF5 (io), 16 D+/RF4 (io), 17 D-/RF3 (io), 18 SEG20/AN7/C2INB/RP36/RF2 (io), 19 SEG43/AN15/RH7 (io), 20 SEG42/AN14/C1INC/RH6 (io), 21 SEG41/AN13/C2IND/RH5 (io), 22 SEG40/AN12/C2INC/RH4 (io), 27 VREF+/AN3/RP3/RA3 (io), 28 SEG21/VREF-/AN2/RP2/RA2 (io), 29 SEG18/AN1/RP1/RA1 (io), 30 SEG19/AN0/AN1-/RP0/RA0 (io), 33 SEG15/AN4/LVDIN/C1INA/C2INA/C3INA/RP5/RA5 (io), 34 SEG14/AN6/RP4/RA4 (io), 35 SOSCI/RC1 (io), 36 SOSCO/SCLKI/PWRLCLK/RC0 (io), 37 SEG27/RP18/~{UOE}/CTED11/RC6 (io), 38 SEG22/RP19/CTED12/RC7 (io), 39 BA0/SEG39/RJ4 (io), 40 ~{CE}/SEG38/RJ5 (io), 41 ~{LB}/SEG37/RJ6 (io), 42 ~{UB}/SEG36/RJ7 (io), 43 SEG13/AN9/RP11/CTED7/RC2 (io), 44 SEG17/SCL1/RP15/CTED8/RC3 (io), 45 SEG16/SDA1/RP17/CTED9/RC4 (io), 46 SEG12/RP16/CTED10/RC5 (io), 47 CTED6/PGD/RB7 (io), 49 OSC1/CLKI/RP10/RA7 (io), 50 OSC2/CLKO/RP6/RA6 (io), 52 CTED5/PGC/RB6 (io), 53 SEG8/RP13/CTED4/RB5 (io), 54 SEG11/RP12/CTED3/RB4 (io), 55 SEG10/RP7/CTED2/RB3 (io), 56 SEG9/RP14/CTED1/RB2 (io), 57 VLCAP2/RP9/RB1 (io), 58 VLCAP1/RP8/CTED13/INT0/RB0 (io), 59 ~{WRH}/SEG35/RJ3 (io), 60 ~{WRL}/SEG34/RJ2 (io), 61 ~{OE}/SEG33/RJ1 (io), 62 ALE/SEG32/RJ0 (io), 63 AD7/SEG7/RP27/REFO2/PSP7/RD7 (io), 64 AD6/SEG6/SCL2/RP26/PSP6/RD6 (io), 65 AD5/SEG5/SDA2/RP25/PSP5/RD5 (io), 66 AD4/SEG4/RP24/PSP4/RD4 (io), 67 AD3/SEG3/RP23/PSP3/RD3 (io), 68 AD2/SEG2/RP22/PSP2/RD2 (io), 69 AD1/SEG1/RP21/PSP1/RD1 (io), 72 AD0/SEG0/RP20/PSP0/RD0 (io), 73 AD15/LCDBIAS0/RP31/RE7 (io), 74 AD14/COM3/RP34/RE6 (io), 75 AD13/COM2/RP37/RE5 (io), 76 AD12/COM1/RP32/RE4 (io), 77 AD11/COM0/RP33/REFO1/RE3 (io), 78 AD10/LCDBIAS3/RP30/~{CS}/RE2 (io), 79 A16/SEG47/AN23/RH0 (io), 80 A17/SEG46/AN22/RH1 (io)
part B pins: 11 VSS (power) "Ground reference for logic and I/O pins.", 23 VUSB3V3 (power) "USB voltage input pin.", 24 VBAT (power), 25 AVDD (power) "Positive supply for analog modules.", 26 AVSS (power) "Ground reference for analog modules.", 31 VSS (power) "Ground reference for logic and I/O pins.", 32 VDD (power) "Positive supply for logic and I/O pins.", 48 VDD (power) "Positive supply for logic and I/O pins.", 51 VSS (power) "Ground reference for logic and I/O pins.", 70 VSS (power) "Ground reference for logic and I/O pins.", 71 VDD (power) "Positive supply for logic and I/O pins."